# Altium footprint library Board_nonBGA.PcbLib: 21 footprints (part 2 of 2)
Each footprint in its own frame and in the unit in brackets; x right, y up, seen from the top. Pads: shape width x height; smd on the part's side, far side on the other; paste and mask are expansions set on the pad; w line width, h text height; cw(c..) or ccw(c..) is an arc to the next point about the centre after c.
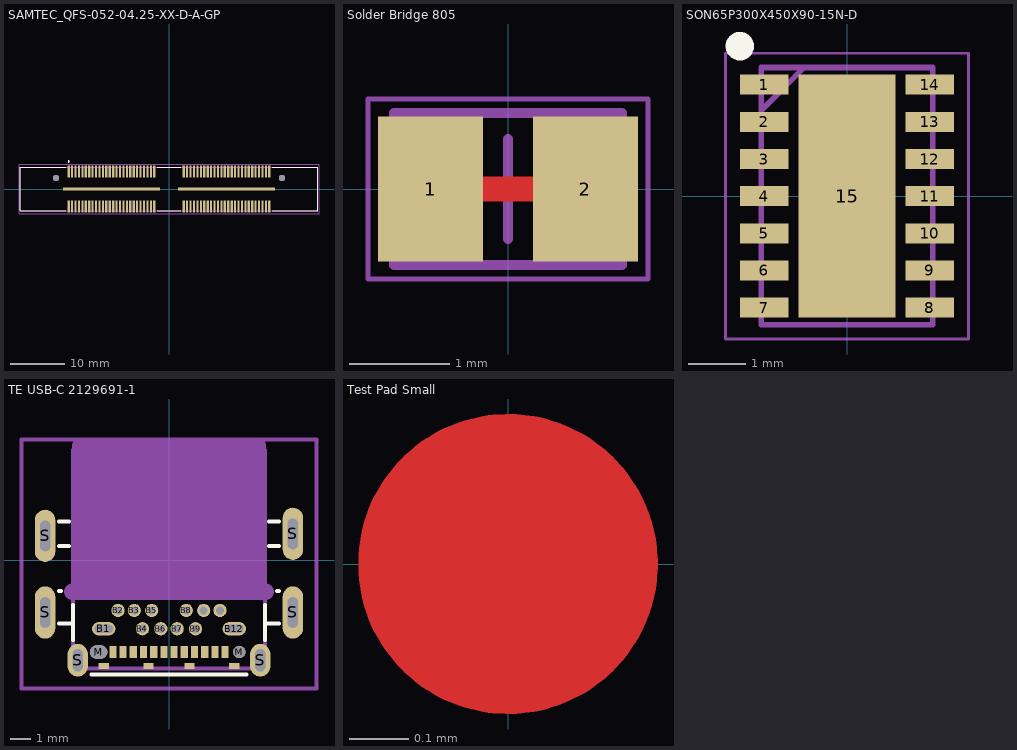
[diagram p1: the footprints below, top view; thin cyan lines are the x and y axes]

## SAMTEC_QFS-052-04.25-XX-D-A-GP [mil]
pads (108):
  rect 16x85 smd: 01(-732.5,127.5) 02(-732.5,-127.5) 03(-707.5,127.5) 04(-707.5,-127.5) 05(-682.5,127.5) 06(-682.5,-127.5) 07(-657.5,127.5) 08(-657.5,-127.5) 09(-632.5,127.5) 10(-632.5,-127.5) 11(-607.5,127.5) 12(-607.5,-127.5) 13(-582.5,127.5) 14(-582.5,-127.5) 15(-557.5,127.5) 16(-557.5,-127.5) 17(-532.5,127.5) 18(-532.5,-127.5) 19(-507.5,127.5) 20(-507.5,-127.5) 21(-482.5,127.5) 22(-482.5,-127.5) 23(-457.5,127.5) 24(-457.5,-127.5) 25(-432.5,127.5) 26(-432.5,-127.5) 27(-407.5,127.5) 28(-407.5,-127.5) 29(-382.5,127.5) 30(-382.5,-127.5) 31(-357.5,127.5) 32(-357.5,-127.5) 33(-332.5,127.5) 34(-332.5,-127.5) 35(-307.5,127.5) 36(-307.5,-127.5) 37(-282.5,127.5) 38(-282.5,-127.5) 39(-257.5,127.5) 40(-257.5,-127.5) 41(-232.5,127.5) 42(-232.5,-127.5) 43(-207.5,127.5) 44(-207.5,-127.5) 45(-182.5,127.5) 46(-182.5,-127.5) 47(-157.5,127.5) 48(-157.5,-127.5) 49(-132.5,127.5) 50(-132.5,-127.5) 51(-107.5,127.5) 52(-107.5,-127.5) 53(107.5,127.5) 54(107.5,-127.5) 55(132.5,127.5) 56(132.5,-127.5) 57(157.5,127.5) 58(157.5,-127.5) 59(182.5,127.5) 60(182.5,-127.5) 61(207.5,127.5) 62(207.5,-127.5) 63(232.5,127.5) 64(232.5,-127.5) 65(257.5,127.5) 66(257.5,-127.5) 67(282.5,127.5) 68(282.5,-127.5) 69(307.5,127.5) 70(307.5,-127.5) 71(332.5,127.5) 72(332.5,-127.5) 73(357.5,127.5) 74(357.5,-127.5) 75(382.5,127.5) 76(382.5,-127.5) 77(407.5,127.5) 78(407.5,-127.5) 79(432.5,127.5) 80(432.5,-127.5) 81(457.5,127.5) 82(457.5,-127.5) 83(482.5,127.5) 84(482.5,-127.5) 85(507.5,127.5) 86(507.5,-127.5) 87(532.5,127.5) 88(532.5,-127.5) 89(557.5,127.5) 90(557.5,-127.5) 91(582.5,127.5) 92(582.5,-127.5) 93(607.5,127.5) 94(607.5,-127.5) 95(632.5,127.5) 96(632.5,-127.5) 97(657.5,127.5) 98(657.5,-127.5) 99(682.5,127.5) 100(682.5,-127.5) 101(707.5,127.5) 102(707.5,-127.5) 103(732.5,127.5) 104(732.5,-127.5)
  rect 710x20 smd: G1(-420,0) G2(420,0)
  round 46 hole 46 unplated: ""(-825,80) ""(825,80)
Top Overlay:
  circle w7.87: c-732.5,200.79 r3.94
  lines w7.87: -755,-160 -1085,-160 -1085,160 -755,160 ; -85,-160 85,-160 ; -85,160 85,160 ; 755,-160 1085,-160 1085,160 755,160
Mechanical 13:
  circle w7.87: c-732.5,200.79 r3.94
  lines w3.94: -1085,-160 1085,-160 1085,160 -1085,160 -1085,-160
Mechanical 15:
  lines w1.97: -1095,-180 1095,-180 1095,180 -1095,180 -1095,-180

## Solder Bridge 805 [mm]
pads (2):
  rect 1.05x1.45 smd: 1(-0.775,0) 2(0.775,0)
Top Layer:
  lines w0.254: -0.775,0 0.775,0
Mechanical 13:
  lines w0.1: -1.14,-0.76 -1.14,0.76 1.14,0.76 1.14,-0.76 -1.14,-0.76
Mechanical 15:
  lines w0.05: -1.4,-0.9 -1.4,0.9 1.4,0.9 1.4,-0.9 -1.4,-0.9
  lines w0.1: -0.5,0 0.5,0 ; 0,-0.5 0,0.5

## SON65P300X450X90-15N-D [mm]
pads (15):
  rect 0.85x0.35 smd: 1(-1.45,1.95) 2(-1.45,1.3) 3(-1.45,0.65) 4(-1.45,0) 5(-1.45,-0.65) 6(-1.45,-1.3) 7(-1.45,-1.95) 8(1.45,-1.95) 9(1.45,-1.3) 10(1.45,-0.65) 11(1.45,0) 12(1.45,0.65) 13(1.45,1.3) 14(1.45,1.95)
  rect 1.7x4.25 smd: 15(0,0)
Top Overlay:
  circle w0.25: c-1.875,2.625 r0.125
Mechanical 13:
  lines w0.1: -1.5,1.5 -0.75,2.25 ; -1.5,-2.25 -1.5,2.25 1.5,2.25 1.5,-2.25 -1.5,-2.25
Mechanical 15:
  lines w0.05: -2.125,-2.5 -2.125,2.5 2.125,2.5 2.125,-2.5 -2.125,-2.5
3D body "MCP2518FDT-H_QBB.stp": height 0.9, standoff 0, extent -1.55,-2.25 1.55,2.25

## TE USB-C 2129691-1 [mm]
pads (36):
  rect 0.35x0.6 smd: A1(2.75,-4.5) A2(2.25,-4.5) A3(1.75,-4.5) A4(1.25,-4.5) A5(0.75,-4.5) A6(0.25,-4.5) A7(-0.25,-4.5) A8(-0.75,-4.5) A9(-1.25,-4.5) A10(-1.75,-4.5) A11(-2.25,-4.5) A12(-2.75,-4.5)
  oval 1.15x0.65 hole 0.4 slot 0.9 at 0 deg: B1(-3.2,-3.36) B12(3.2,-3.36)
  round 0.65 hole 0.4: B2(-2.5,-2.46) B3(-1.7,-2.46) B4(-1.3,-3.36) B5(-0.85,-2.46) B6(-0.4,-3.36) B7(0.4,-3.36) B8(0.85,-2.46) B9(1.3,-3.36) B10(1.7,-2.46) B11(2.5,-2.46)
  oval 0.85x0.65 hole 0.65 slot 0.85 at 0 deg unplated mask+0.102: M(-3.45,-4.5)
  round 0.6 hole 0.6 unplated mask+0.102: M(3.45,-4.5)
  oval 1x2.56 hole 0.5 slot 1.5 at 90 deg: S(-6.075,-2.56) S(-6.075,1.2) S(6.075,-2.56) S(6.075,1.3)
  oval 1x1.6 hole 0.5 slot 1.1 at 90 deg: S(-4.475,-4.9) S(4.475,-4.9)
  rect 0.5x0.3 smd: S(-3.2,-5.19) S(-1,-5.19) S(1,-5.19) S(3.2,-5.19)
Top Overlay:
  lines w0.2: -5.4,-3.1 -4.7,-3.1 ; -5.4,-1.5 -5.3,-1.5 ; -5.4,0.7 -4.9,0.7 ; -5.4,1.9 -4.9,1.9 ; -4.7,-3.9 -4.7,-2.2 ; -3.8,-5.6 0,-5.6 3.8,-5.6 ; 4.7,-3.9 4.7,-2.2 ; 4.7,-3.1 5.4,-3.1 ; 4.9,0.7 5.4,0.7 ; 4.9,1.9 5.4,1.9 ; 5.3,-1.5 5.4,-1.5
Mechanical 1:
  lines w0.2: -4.7,-5.3 -4.7,5.4 0,5.4 4.7,5.4 4.7,-5.3 0,-5.3 -4.7,-5.3
Mechanical 15:
  lines w0.2: -0.635,0 0.635,0 ; 0,-0.635 0,0.635 ; -7.239,-6.278 -7.239,5.914 0,5.914 7.239,5.914 7.239,-6.278 0,-6.278 -7.239,-6.278
Mechanical 31:
  region: 4.35,5.61 -4.35,5.61 -4.35,-1.54 4.35,-1.54
  lines w0.8: -4.75,-1.54 4.75,-1.54 ; -4.35,-1.54 -4.35,5.61 0,5.61 4.35,5.61 4.35,-1.54
3D body "TE USB 2129691-1.STEP": height 2.27, standoff -1.07, extent -6.175,-5.3 6.175,5.4

## Test Pad Small [mm]
Top Layer:
  circle w0.254: c0,0 r0.127